# Altium schematic symbol library LM2596S-5.0.SchLib: 1 symbol
Pins are listed as number, name and electrical type; pins without a type are passive.

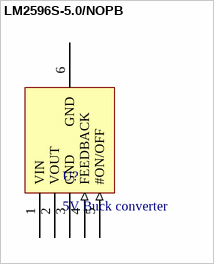
[diagram p0: symbol LM2596S-5.0/NOPB]

## LM2596S-5.0/NOPB
designator U?, comment 5V Buck converter
LM2596S-5.0/NOPB 5V Buck converter; Manufacturer: Texas Instruments; Reference: LM2596S-5.0/NOPB
pins: 1 VIN (power), 2 VOUT (power), 3 GND (power), 4 FEEDBACK (in), 5 #ON/OFF (in), 6 GND (power)